# Altium schematic symbol library Res Varistor.Schlib: 1 symbol
Pins are listed as number, name and electrical type; pins without a type are passive.

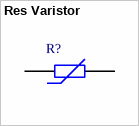
[diagram p0: symbol Res Varistor]

## Res Varistor
designator R?
Varistor (Voltage-Sensitive Resistor)
pins: 1, 2